# EAGLE library part BQ25606RGE? (library BQ25606)
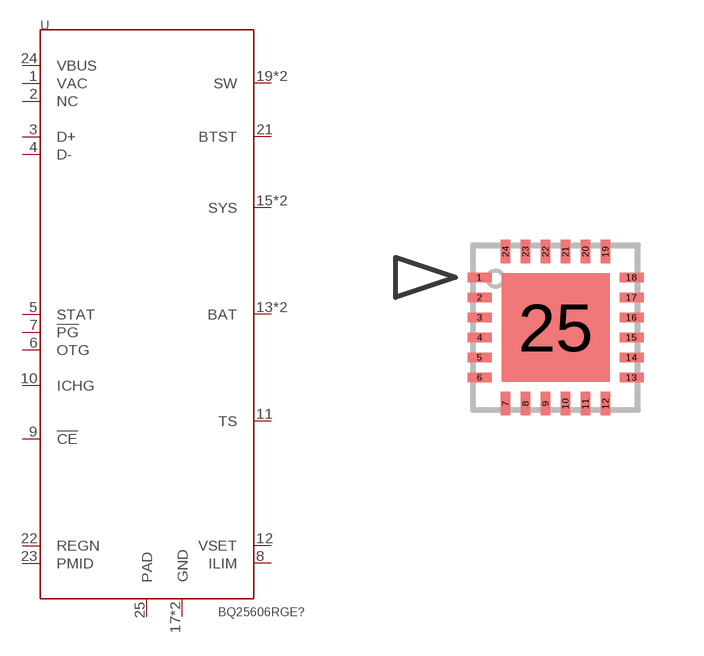
[diagram p0: symbol with the pads of RGE0024H; footprint RGE0024H]

Designator prefix U

## BQ25606RGER (MF: Texas Instruments; MPN: BQ25606REGR), BQ25606RGET (MF: Texas Instruments; MPN: BQ25606REGT)  [RGE0024H]
1  VAC  pwr
2  NC  pas
3  D+  in
4  D-  pas
5  STAT  oc
6  OTG  in
7  !PG  oc
8  ILIM  in
9  !CE  in
10  ICHG
11  TS  in
12  VSET  in
13  BAT  pwr
14  BAT  pwr
15  SYS  pwr
16  SYS  pwr
17  GND  pwr
18  GND  pwr
19  SW  pwr
20  SW  pwr
21  BTST  pwr
22  REGN  pwr
23  PMID  out
24  VBUS  pwr
25  PAD  pwr

## Footprint RGE0024H (pad centres in mm)
smd 0.6 x 0.24: 1 -1.9,1.25; 2 -1.9,0.75; 3 -1.9,0.25; 4 -1.9,-0.25; 5 -1.9,-0.75; 6 -1.9,-1.25; 13 1.9,-1.25; 14 1.9,-0.75; 15 1.9,-0.25; 16 1.9,0.25; 17 1.9,0.75; 18 1.9,1.25
smd 0.24 x 0.6: 7 -1.25,-1.9; 8 -0.75,-1.9; 9 -0.25,-1.9; 10 0.25,-1.9; 11 0.75,-1.9; 12 1.25,-1.9; 19 1.25,1.9; 20 0.75,1.9; 21 0.25,1.9; 22 -0.25,1.9; 23 -0.75,1.9; 24 -1.25,1.9
smd 2.7 x 2.7: 25 0,0